# Altium footprint library 1786064.PcbLib: 1 footprints
Each footprint in its own frame and in the unit in brackets; x right, y up, seen from the top. Pads: shape width x height; smd on the part's side, far side on the other; paste and mask are expansions set on the pad; w line width, h text height; cw(c..) or ccw(c..) is an arc to the next point about the centre after c.
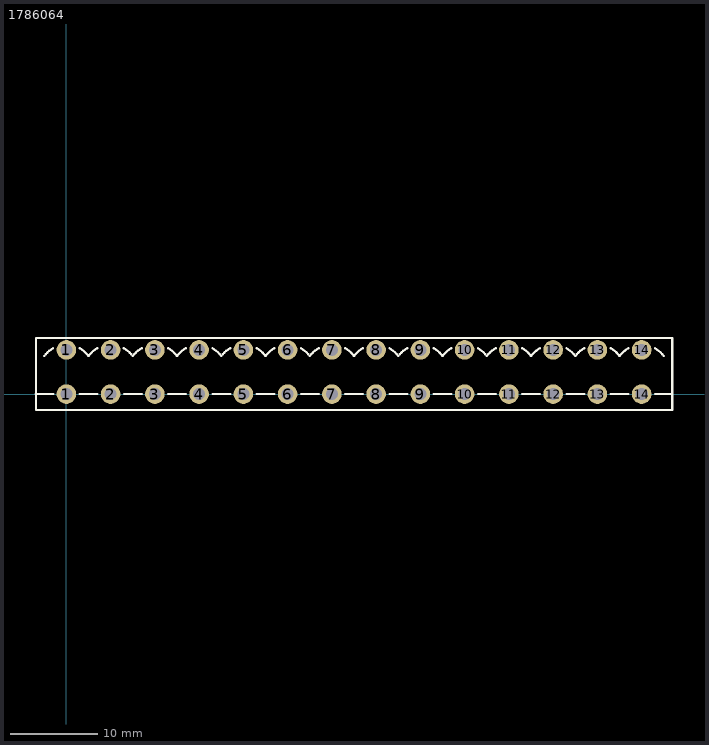
[diagram p0: the footprint, top view; thin cyan lines are the x and y axes]

## 1786064 [mm] "14pos Eurostyle (Phoenix) female terminal block header (PCB mount)"
pads (28):
  round 2.25 hole 1.4: 1(0,0) 1(0,5.08) 2(5.08,0) 2(5.08,5.08) 3(10.16,0) 3(10.16,5.08) 4(15.24,0) 4(15.24,5.08) 5(20.32,0) 5(20.32,5.08) 6(25.4,0) 6(25.4,5.08) 7(30.48,0) 7(30.48,5.08) 8(35.56,0) 8(35.56,5.08) 9(40.64,0) 9(40.64,5.08) 10(45.72,0) 10(45.72,5.08) 11(50.8,0) 11(50.8,5.08) 12(55.88,0) 12(55.88,5.08) 13(60.96,0) 13(60.96,5.08) 14(66.04,0) 14(66.04,5.08)
Top Overlay:
  lines w0.254: 6.6,5.276 cw(c5.08,2.54) 7.62,4.369 ; 6.604,0 8.661,0 ; 7.623,4.373 cw(c10.16,2.54) 8.642,5.277 ; 11.68,5.276 cw(c10.16,2.54) 12.7,4.369 ; 11.684,0 13.741,0 ; 12.703,4.373 cw(c15.24,2.54) 13.722,5.277 ; 16.76,5.276 cw(c15.24,2.54) 17.78,4.369 ; 16.764,0 18.821,0 ; 17.783,4.373 cw(c20.32,2.54) 18.802,5.277 ; 21.84,5.276 cw(c20.32,2.54) 22.86,4.369 ; 21.844,0 23.901,0 ; 22.863,4.373 cw(c25.4,2.54) 23.882,5.277 ; 26.92,5.276 cw(c25.4,2.54) 27.94,4.369 ; 26.924,0 28.981,0 ; 27.943,4.373 cw(c30.48,2.54) 28.962,5.277 ; 32,5.276 cw(c30.48,2.54) 33.02,4.369 ; 32.004,0 34.061,0 ; 33.023,4.373 cw(c35.56,2.54) 34.042,5.277 ; 37.08,5.276 cw(c35.56,2.54) 38.1,4.369 ; 37.084,0 39.141,0 ; 38.103,4.373 cw(c40.64,2.54) 39.122,5.277 ; 42.16,5.276 cw(c40.64,2.54) 43.18,4.369 ; 42.164,0 44.221,0 ; 43.183,4.373 cw(c45.72,2.54) 44.202,5.277 ; 47.24,5.276 cw(c45.72,2.54) 48.26,4.369 ; 47.244,0 49.301,0 ; 48.263,4.373 cw(c50.8,2.54) 49.282,5.277 ; 52.32,5.276 cw(c50.8,2.54) 53.34,4.369 ; 52.324,0 54.381,0 ; 53.343,4.373 cw(c55.88,2.54) 54.362,5.277 ; 57.4,5.276 cw(c55.88,2.54) 58.42,4.369 ; 57.404,0 59.461,0 ; 58.423,4.373 cw(c60.96,2.54) 59.442,5.277 ; 62.48,5.276 cw(c60.96,2.54) 63.5,4.369 ; 62.484,0 64.541,0 ; 63.503,4.373 cw(c66.04,2.54) 64.522,5.277 ; 67.56,5.276 cw(c66.04,2.54) 68.58,4.369 ; 67.564,0 69.469,0 ; -3.505,0 -1.499,0 -3.505,0 ; -3.5,-1.829 69.54,-1.829 69.54,6.452 -3.5,6.452 -3.5,-1.829 ; -2.537,4.373 cw(c0,2.54) -1.518,5.277 ccw(c0,2.54) -2.537,4.373 ; 1.52,5.276 cw(c0,2.54) 2.54,4.369 ccw(c0,2.54) 1.52,5.276 ; 1.524,0 3.581,0 1.524,0 ; 2.543,4.373 cw(c5.08,2.54) 3.562,5.277 ccw(c5.08,2.54) 2.543,4.373
3D body: height 18.9, standoff -3.7, extent -3.54,-3.756 69.58,6.444